# Altium footprint library DIP.PcbLib: 2 footprints
Each footprint in its own frame and in the unit in brackets; x right, y up, seen from the top. Pads: shape width x height; smd on the part's side, far side on the other; paste and mask are expansions set on the pad; w line width, h text height; cw(c..) or ccw(c..) is an arc to the next point about the centre after c.
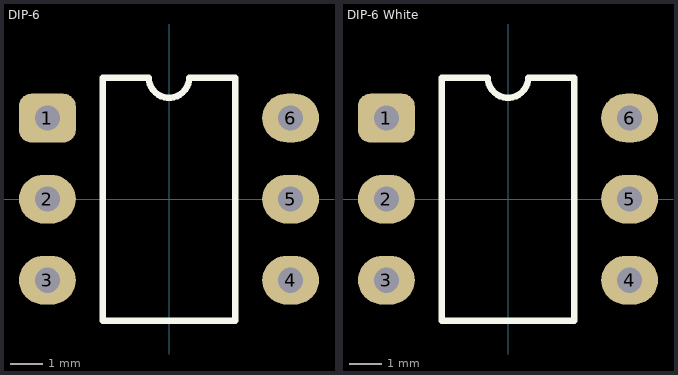
[diagram p0: the footprints below, top view; thin cyan lines are the x and y axes]

## DIP-6 [mil]
pads (6):
  rrect50% 70x60 hole 31: 1(-150,100)
  oval 70x60 hole 31: 2(-150,0) 3(-150,-100) 4(150,-100) 5(150,0) 6(150,100)
Top Overlay:
  lines w8: -82,-150 -82,150 -25,150 ccw(c0,150) 25,150 82,150 82,-150 -82,-150
3D body "CircuitWorks-DIP6.step": height 169.69, standoff -129.13, extent -157.48,-158.11 157.48,160

## DIP-6 White [mil]
pads (6):
  rrect50% 70x60 hole 31: 1(-150,100)
  oval 70x60 hole 31: 2(-150,0) 3(-150,-100) 4(150,-100) 5(150,0) 6(150,100)
Top Overlay:
  lines w8: -82,-150 -82,150 -25,150 ccw(c0,150) 25,150 82,150 82,-150 -82,-150
3D body "User Library-DIP6-White.STEP": height 173.66, standoff -113.74, extent -154.92,-140.32 154.92,140